# Altium schematic symbol library Teensy4.SchLib: 1 symbol
Pins are listed as number, name and electrical type; pins without a type are passive.

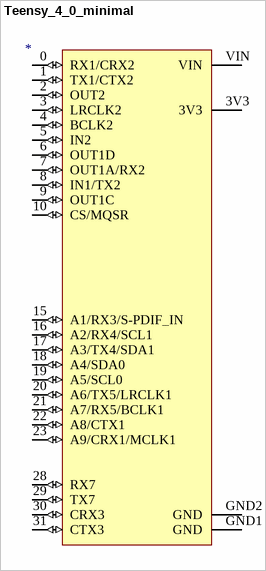
[diagram p0: symbol Teensy_4_0_minimal]

## Teensy_4_0_minimal
designator *  (value not drawn)
footprint Teensy_4_0_minimal
pins: 0 RX1/CRX2 (io), 1 TX1/CTX2 (io), 2 OUT2 (io), 3 LRCLK2 (io), 3V3 (power), 4 BCLK2 (io), 5 IN2 (io), 6 OUT1D (io), 7 OUT1A/RX2 (io), 8 IN1/TX2 (io), 9 OUT1C (io), 10 CS/MQSR (io), 15 A1/RX3/S-PDIF_IN (io), 16 A2/RX4/SCL1 (io), 17 A3/TX4/SDA1 (io), 18 A4/SDA0 (io), 19 A5/SCL0 (io), 20 A6/TX5/LRCLK1 (io), 21 A7/RX5/BCLK1 (io), 22 A8/CTX1 (io), 23 A9/CRX1/MCLK1 (io), 28 RX7 (io), 29 TX7 (io), 30 CRX3 (io), 31 CTX3 (io), GND1 GND (power), GND2 GND (power), VIN (power)